# EAGLE library part QFP-315-5378B-100 (library Sega GG ICv7)
Seag Game Gear Asic's Version V0 315-5378A/B
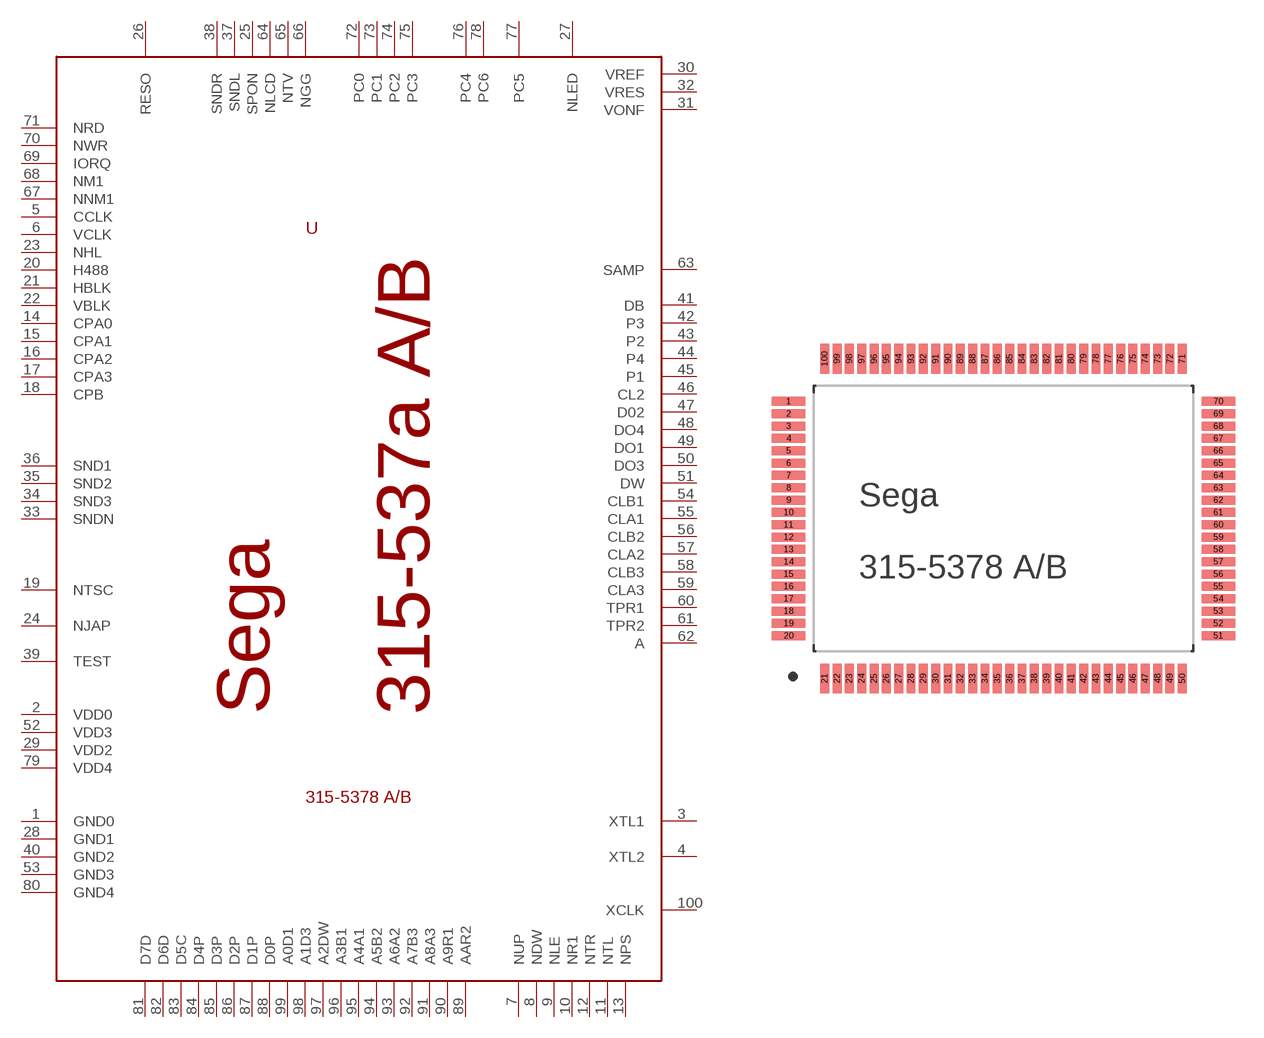
[diagram p1: symbol with the pads of QFP-315-5378B-100; footprint QFP-315-5378B-100]

Designator prefix -

## QFP-315-5378B-100  [QFP-315-5378B-100]
1  GND0
2  VDD0
3  XTL1
4  XTL2
5  CCLK
6  VCLK
7  NUP
8  NDW
9  NLE
10  NR1
11  NTL
12  NTR
13  NPS
14  CPA0
15  CPA1
16  CPA2
17  CPA3
18  CPB
19  NTSC
20  H488
21  HBLK
22  VBLK
23  NHL
24  NJAP
25  SPON
26  RESO
27  NLED
28  GND1
29  VDD2
30  VREF
31  VONF
32  VRES
33  SNDN
34  SND3
35  SND2
36  SND1
37  SNDL
38  SNDR
39  TEST
40  GND2
41  DB
42  P3
43  P2
44  P4
45  P1
46  CL2
47  D02
48  DO4
49  DO1
50  DO3
51  DW
52  VDD3
53  GND3
54  CLB1
55  CLA1
56  CLB2
57  CLA2
58  CLB3
59  CLA3
60  TPR1
61  TPR2
62  A
63  SAMP
64  NLCD
65  NTV
66  NGG
67  NNM1
68  NM1
69  IORQ
70  NWR
71  NRD
72  PC0
73  PC1
74  PC2
75  PC3
76  PC4
77  PC5
78  PC6
79  VDD4
80  GND4
81  D7D
82  D6D
83  D5C
84  D4P
85  D3P
86  D2P
87  D1P
88  D0P
89  AAR2
90  A9R1
91  A8A3
92  A7B3
93  A6A2
94  A5B2
95  A4A1
96  A3B1
97  A2DW
98  A1D3
99  A0D1
100  XCLK

## Footprint QFP-315-5378B-100 (pad centres in mm)
Sega 315-5378A/B 100-QFP Sega Game Gear ASIC Version V0 100-pin QFP
smd 1.762 x 0.472: 1 -11.325,6.175; 2 -11.325,5.525; 3 -11.325,4.875; 4 -11.325,4.225; 5 -11.325,3.575; 6 -11.325,2.925; 7 -11.325,2.275; 8 -11.325,1.625; 9 -11.325,0.975; 10 -11.325,0.325; 11 -11.325,-0.325; 12 -11.325,-0.975; 13 -11.325,-1.625; 14 -11.325,-2.275; 15 -11.325,-2.925; 16 -11.325,-3.575; 17 -11.325,-4.225; 18 -11.325,-4.875; 19 -11.325,-5.525; 20 -11.325,-6.175; 51 11.325,-6.175; 52 11.325,-5.525; 53 11.325,-4.875; 54 11.325,-4.225; 55 11.325,-3.575; 56 11.325,-2.925; 57 11.325,-2.275; 58 11.325,-1.625; 59 11.325,-0.975; 60 11.325,-0.325; 61 11.325,0.325; 62 11.325,0.975; 63 11.325,1.625; 64 11.325,2.275; 65 11.325,2.925; 66 11.325,3.575; 67 11.325,4.225; 68 11.325,4.875; 69 11.325,5.525; 70 11.325,6.175
smd 0.472 x 1.562: 21 -9.425,-8.425; 22 -8.775,-8.425; 23 -8.125,-8.425; 24 -7.475,-8.425; 25 -6.825,-8.425; 26 -6.175,-8.425; 27 -5.525,-8.425; 28 -4.875,-8.425; 29 -4.225,-8.425; 30 -3.575,-8.425; 31 -2.925,-8.425; 32 -2.275,-8.425; 33 -1.625,-8.425; 34 -0.975,-8.425; 35 -0.325,-8.425; 36 0.325,-8.425; 37 0.975,-8.425; 38 1.625,-8.425; 39 2.275,-8.425; 40 2.925,-8.425; 41 3.575,-8.425; 42 4.225,-8.425; 43 4.875,-8.425; 44 5.525,-8.425; 45 6.175,-8.425; 46 6.825,-8.425; 47 7.475,-8.425; 48 8.125,-8.425; 49 8.775,-8.425; 50 9.425,-8.425; 71 9.425,8.425; 72 8.775,8.425; 73 8.125,8.425; 74 7.475,8.425; 75 6.825,8.425; 76 6.175,8.425; 77 5.525,8.425; 78 4.875,8.425; 79 4.225,8.425; 80 3.575,8.425; 81 2.925,8.425; 82 2.275,8.425; 83 1.625,8.425; 84 0.975,8.425; 85 0.325,8.425; 86 -0.325,8.425; 87 -0.975,8.425; 88 -1.625,8.425; 89 -2.275,8.425; 90 -2.925,8.425; 91 -3.575,8.425; 92 -4.225,8.425; 93 -4.875,8.425; 94 -5.525,8.425; 95 -6.175,8.425; 96 -6.825,8.425; 97 -7.475,8.425; 98 -8.125,8.425; 99 -8.775,8.425; 100 -9.425,8.425